# Altium footprint library DIMNodeCN25_08_20121.PcbLib: 43 footprints (part 2 of 3)
Each footprint in its own frame and in the unit in brackets; x right, y up, seen from the top. Pads: shape width x height; smd on the part's side, far side on the other; paste and mask are expansions set on the pad; w line width, h text height; cw(c..) or ccw(c..) is an arc to the next point about the centre after c.
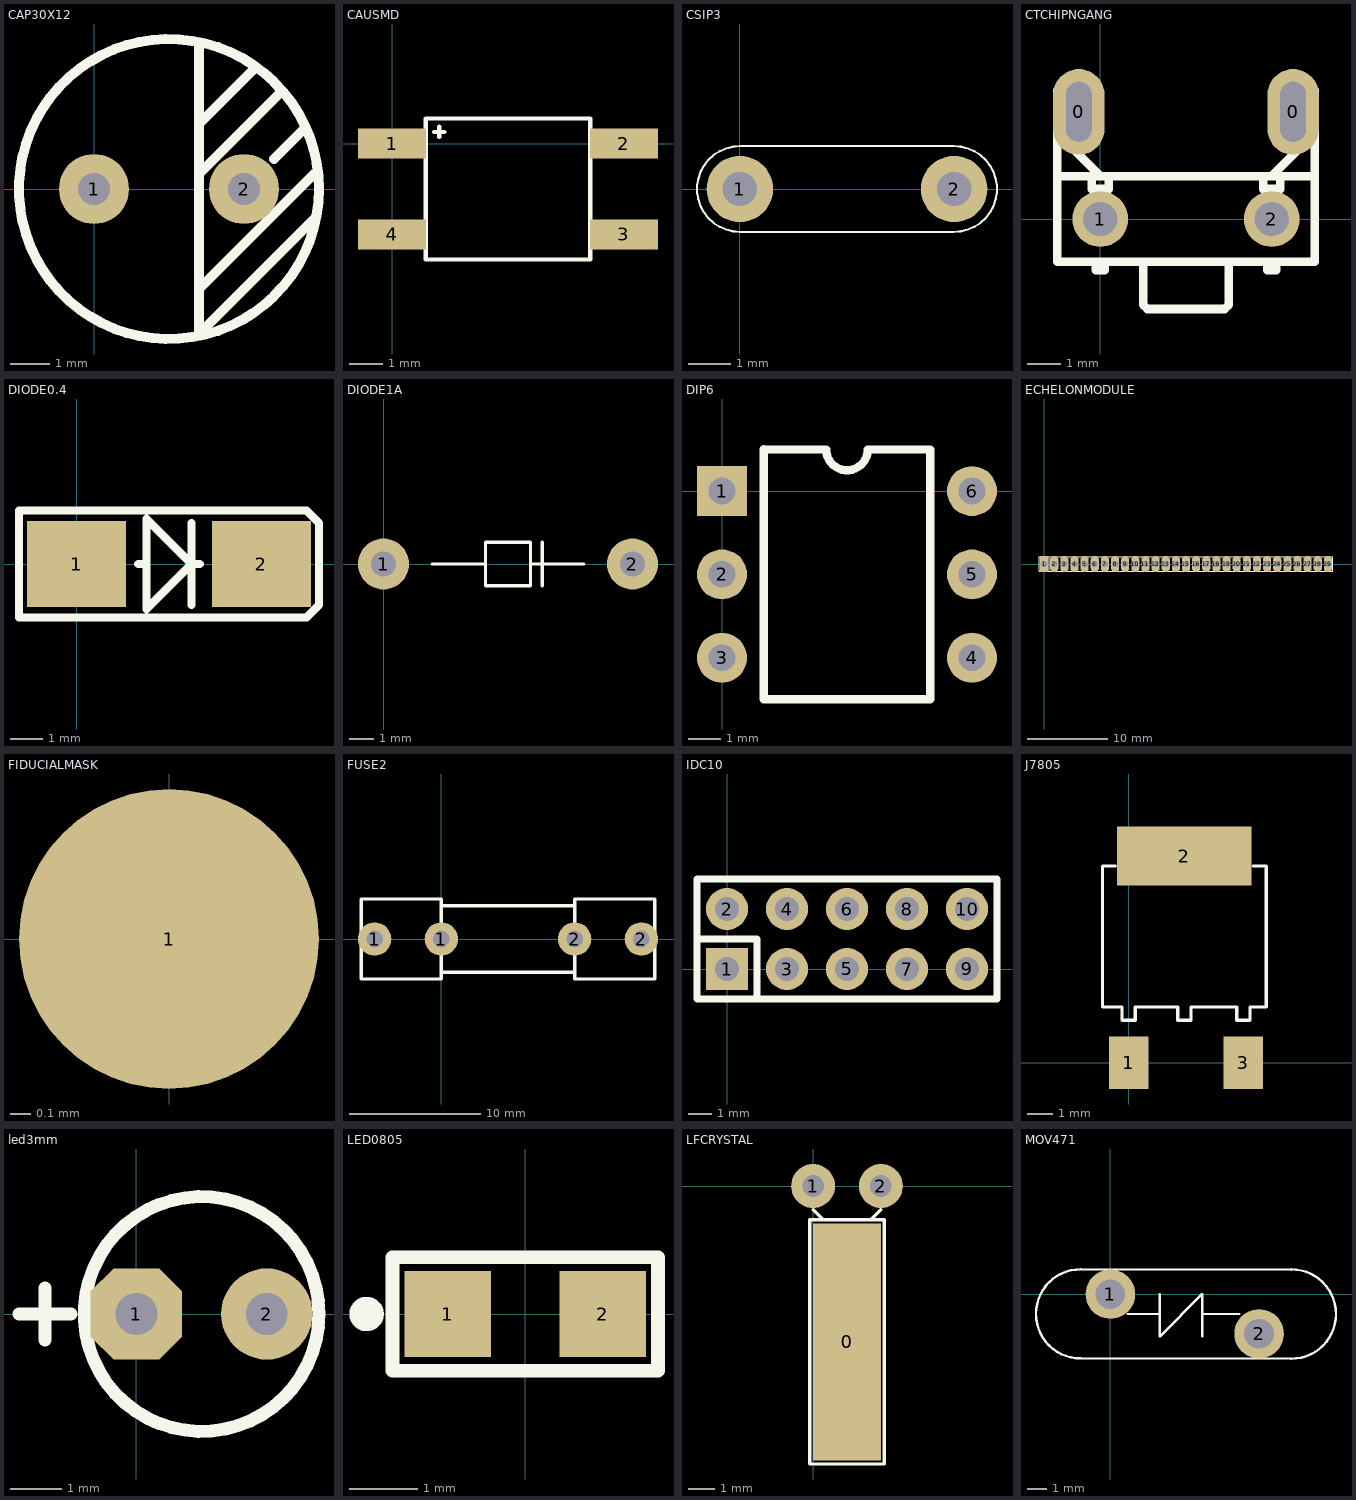
[diagram p1: the footprints below, top view; thin cyan lines are the x and y axes]

## CAP30X12 [mil]
pads (2):
  round 70 hole 32: 1(0,0) 2(150,0)
Top Overlay:
  circle w10: c75,0 r150
  lines w10: 105,-100 220,15 ; 105,15 185,95 ; 105,65 160,120 ; 105,145 105,-145 220,-30 ; 180,30 210,60

## CAUSMD [mil]
pads (4):
  rect 80x35 smd: 1(0,0) 2(271.65,0) 3(271.65,-106.3) 4(0,-106.3)
Top Overlay:
  lines w5: 49.21,13.78 61.02,13.78 ; 55.12,7.87 55.12,19.68 ; 39.37,-135.83 39.37,29.53 232.28,29.53 232.28,-135.83 39.37,-135.83

## CSIP3 [mil]
pads (2):
  round 62 hole 32: 1(0,0) 2(200,0)
Top Overlay:
  lines w2: 0,-40 cw(c0,0) 0,40 200,40 cw(c200,0) 200,-40 0,-40

## CTCHIPNGANG [mil]
pads (4):
  oval 60x100 hole 30 slot 70 at 90 deg: 0(-25,125) 0(225,125)
  round 65 hole 40: 1(0,0) 2(200,0)
Top Overlay:
  lines w10: -50,50 250,50 ; -50,100 0,50 ; -50,150 -50,-50 250,-50 250,150 ; -10,50 -10,35 10,35 10,50 ; -5,-50 -5,-60 5,-60 5,-50 ; 50,-50 50,-100 55,-105 145,-105 150,-100 150,-50 ; 190,50 190,35 205,35 210,35 210,50 ; 195,-50 195,-60 205,-60 205,-50 ; 200,50 250,100

## DIODE0.4 [mil]
pads (2):
  rect 120x105 smd: 1(0,0) 2(225,0)
Top Overlay:
  lines w10: 75,0 85,0 ; 140,-50 140,50 ; 150,0 140,0 ; 140,0 85,-55 85,55 140,0 ; -70,-65 275,-65 280,-65 295,-50 295,-45 295,50 280,65 -70,65 -70,-65

## DIODE1A [mil]
pads (2):
  round 82 hole 40: 1(0,0) 2(400,0)
Top Overlay:
  lines w5: 78,0 164,0 ; 236,0 322,0 ; 255,-35 255,35 ; 164,0 164,-35 236,-35 236,35 164,35 164,0

## DIP6 [mil]
pads (6):
  rect 60x60 hole 32: 1(0,0)
  round 60 hole 32: 2(0,-100) 3(0,-200) 4(300,-200) 5(300,-100) 6(300,0)
Top Overlay:
  lines w10: 50,-250 250,-250 250,50 175,50 cw(c150,50) 125,50 50,50 50,-250

## ECHELONMODULE [mil]
pads (29):
  rect 40x80 hole 32: 1(0,0)
  oval 40x80 hole 32: 2(50,0) 3(100,0) 4(150,0) 5(200,0) 6(250,0) 7(300,0) 8(350,0) 9(400,0) 10(450,0) 11(500,0) 12(550,0) 13(600,0) 14(650,0) 15(700,0) 16(750,0) 17(800,0) 18(850,0) 19(900,0) 20(950,0) 21(1000,0) 22(1050,0) 23(1100,0) 24(1150,0) 25(1200,0) 26(1250,0) 27(1300,0) 28(1350,0) 29(1400,0)
Top Overlay:
  lines w5: 25,-35 25,35 ; -25,-35 -25,35 1425,35 1425,-35 -25,-35

## FIDUCIALMASK [mm]
pads (1):
  round 1.5 all layers, no hole: 1(0,0)

## FUSE2 [mil]
pads (4):
  round 100 hole 50: 1(-200,0) 1(0,0) 2(400,0) 2(600,0)
Top Overlay:
  lines w10: 0,-100 0,100 ; 0,-100 400,-100 ; 0,-100 0,-120 -240,-120 -240,120 0,120 0,100 ; 0,100 400,100 ; 400,-100 400,100 ; 400,-100 400,-120 640,-120 640,120 400,120 400,100

## IDC10 [mil]
pads (10):
  rect 70x70 hole 40: 1(0,0)
  round 70 hole 40: 2(0,100) 3(100,0) 4(100,100) 5(200,0) 6(200,100) 7(300,0) 8(300,100) 9(400,0) 10(400,100)
Top Overlay:
  lines w12: -50,50 50,50 50,-50 ; -50,-50 -50,150 450,150 450,-50 -50,-50

## J7805 [mil]
pads (3):
  rect 60x80 smd: 1(0,0) 3(175,0)
  rect 205x90 smd: 2(85,315)
Top Overlay:
  lines w5: -20,300 -40,300 -40,85 -10,85 -10,65 10,65 10,85 75,85 75,65 95,65 95,85 165,85 165,65 185,65 185,85 210,85 210,300 190,300

## led3mm [mil]
pads (2):
  oct 70x70 hole 32: 1(0,0)
  round 70 hole 32: 2(100,0)
Top Overlay:
  circle w10: c50,0 r90
  lines w10: -90,0 -50,0 ; -70,-20 -70,20

## LED0805 [mil] "Chip Resistor; Body 2.0 x 1.3 mm (LxW typ)"
height 100
pads (2):
  rect 50x50 smd: 1(-45,0) 2(45,0)
Top Overlay:
  circle w10: c-92,0 r5
  lines w7.87: 77,32 77,-33 -77,-33 -77,33 77,33
3D body: height 19.68, standoff 0, extent -60,-25 60,25
3D body: height 47.24, standoff 19.68, extent -35,-25 35,25

## LFCRYSTAL [mil]
pads (3):
  rect 100x350 smd: 0(50,-230)
  round 65 hole 32: 1(0,0) 2(100,0)
Top Overlay:
  lines w5: 0,-35 15,-50 ; 85,-50 100,-35 ; -5,-410 105,-410 105,-50 -5,-50 -5,-410

## MOV471 [mil]
pads (2):
  round 100 hole 60: 1(0,0) 2(300,-80)
Top Overlay:
  lines w5: -60,50 365,49.72 ; -60,50.28 ccw(c-60,-39.72) -60,-129.72 365,-130 ; 35,-40 100,-40 ; 100,0 100,-85 185,0 185,-85 ; 185,-40 260,-40 ; 365,-130.28 ccw(c365,-40.14) 365,50